# EAGLE library part MAGJACK (library pavlo)
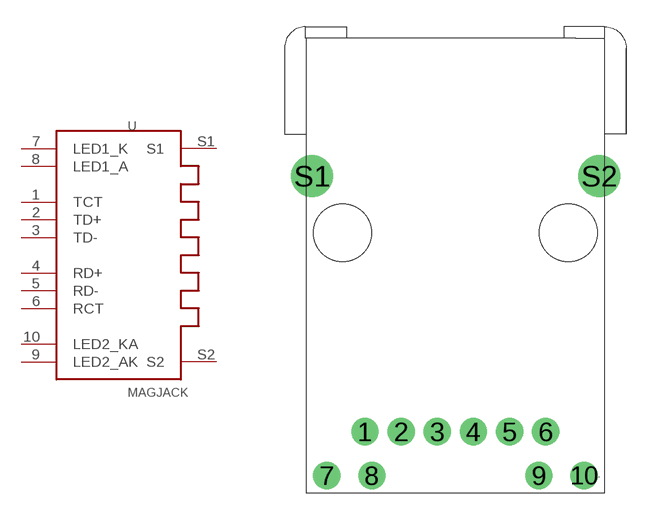
[diagram p1: symbol with the pads of 08B0-1X1T-06-F; footprint 08B0-1X1T-06-F]

Designator prefix -

## MAGJACK  [08B0-1X1T-06-F]
1  TCT
2  TD+
3  TD-
4  RD+
5  RD-
6  RCT
7  LED1_K
8  LED1_A
9  LED2_AK
10  LED2_KA
S1  S1
S2  S2

## Footprint 08B0-1X1T-06-F (pad centres in mm)
drill 1.02: 1 2.15,2.46; 2 4.18,2.46; 3 6.21,2.46; 4 8.24,2.46; 5 10.27,2.46; 6 12.3,2.46; 7 0,0; 8 2.54,0; 9 11.91,0; 10 14.45,0
drill 1.57: S1 -0.83,16.808; S2 15.3,16.809
hole 3.25 at 0.88,13.63
hole 3.25 at 13.58,13.63